# Altium footprint library RF-learn-command-1relay.PcbLib: 2 footprints
Each footprint in its own frame and in the unit in brackets; x right, y up, seen from the top. Pads: shape width x height; smd on the part's side, far side on the other; paste and mask are expansions set on the pad; w line width, h text height; cw(c..) or ccw(c..) is an arc to the next point about the centre after c.
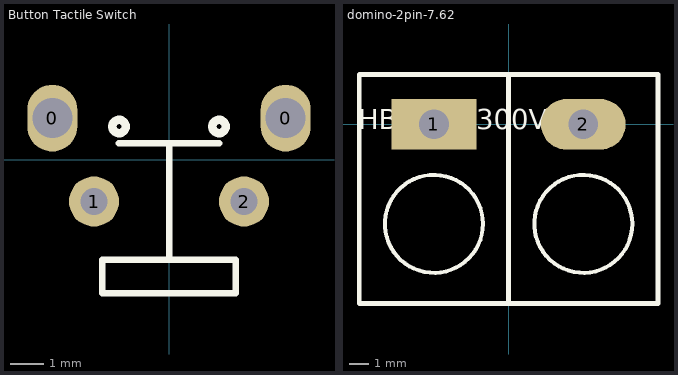
[diagram p0: the footprints below, top view; thin cyan lines are the x and y axes]

## Button Tactile Switch [mm]
height 0.85
pads (4):
  oval 1.5x2 hole 1.2: 0(-3.5,1.25) 0(3.5,1.25)
  round 1.5 hole 0.8: 1(-2.25,-1.25) 2(2.25,-1.25)
Top Overlay:
  circle w0.254: c-1.5,1 r0.2
  circle w0.254: c1.5,1 r0.2
  lines w0.2: -1.5,0.5 1.5,0.5 ; 0.008,-3 0.008,0.5 ; -2,-4 -2,-3 2,-3 2,-4 -2,-4
3D body "43392.stp": height 7.4, standoff -3.5, extent -4.25,-4.85 4.25,3.05

## domino-2pin-7.62 [mil] "domino-2pin-7.62"
pads (2):
  rect 170x101.89 hole 60: 1(-150,0)
  oval 170x101.89 hole 60: 2(150,0)
Top Overlay:
  circle w8: c-150,-200 r98.43
  circle w8: c150,-200 r98.43
  lines w10: 0,-360 0,100 ; 300,-360 300,-300 ; 300,-360 -300,-360 -300,100 300,100 ; 300,-360 300,100 ; 300,-300 300,100 ; 300,-300 300,100
  text "HB9500 300V-20A" at -302.5,-10 h40